# Altium schematic symbol library M2_Library.SchLib: 1 symbol
Pins are listed as number, name and electrical type; pins without a type are passive.

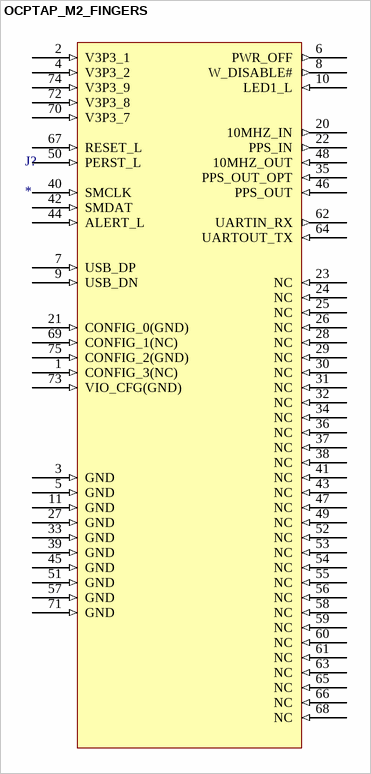
[diagram p0: symbol OCPTAP_M2_FINGERS]

## OCPTAP_M2_FINGERS
designator J?
footprint OCPTAP M2 FINGERS
pins: 1 CONFIG_3(NC) (in), 2 V3P3_1 (in), 3 GND (in), 4 V3P3_2 (in), 5 GND (in), 6 PWR_OFF (out), 7 USB_DP (in), 8 W_DISABLE# (out), 9 USB_DN (in), 10 LED1_L (in), 11 GND (in), 20 10MHZ_IN (out), 21 CONFIG_0(GND) (in), 22 PPS_IN (out), 23 NC (in), 24 NC (in), 25 NC (in), 26 NC (in), 27 GND (in), 28 NC (in), 29 NC (in), 30 NC (in), 31 NC (in), 32 NC (in), 33 GND (in), 34 NC (in), 35 PPS_OUT_OPT (in), 36 NC (in), 37 NC (in), 38 NC (in), 39 GND (in), 40 SMCLK (in), 41 NC (in), 42 SMDAT (in), 43 NC (in), 44 ALERT_L (in), 45 GND (in), 46 PPS_OUT (in), 47 NC (in), 48 10MHZ_OUT (in), 49 NC (in), 50 PERST_L (in), 51 GND (in), 52 NC (in), 53 NC (in), 54 NC (in), 55 NC (in), 56 NC (in), 57 GND (in), 58 NC (in), 59 NC (in), 60 NC (in), 61 NC (in), 62 UARTIN_RX (out), 63 NC (in), 64 UARTOUT_TX (in), 65 NC (in), 66 NC (in), 67 RESET_L (in), 68 NC (in), 69 CONFIG_1(NC) (in), 70 V3P3_7 (in), 71 GND (in), 72 V3P3_8 (in), 73 VIO_CFG(GND) (in), 74 V3P3_9 (in), 75 CONFIG_2(GND) (in)